# EAGLE library part TPS61236P (library CougsInSpace)
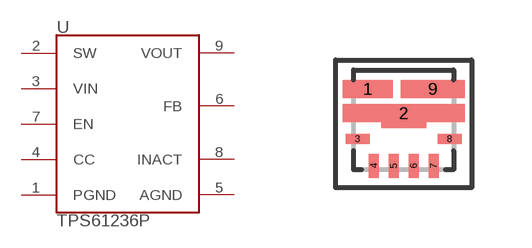
[diagram p27: symbol with the pads of QFN-TPS61236P; footprint QFN-TPS61236P]

Designator prefix U

## TPS61236P  [QFN-TPS61236P]
1  PGND  pwr
2  SW  pas
3  VIN  pwr
4  CC  in
5  AGND  pwr
6  FB  in
7  EN  in
8  INACT  out
9  VOUT  pwr

## Footprint QFN-TPS61236P (pad centres in mm)
smd 1.25 x 0.44: 1 -0.9,0.77
smd 3.05 x 0.45: 2 0,0.17
smd 0.6 x 0.25: 3 -1.15,-0.475; 8 1.15,-0.475
smd 0.25 x 0.6: 4 -0.75,-1.15; 5 -0.25,-1.15; 6 0.25,-1.15; 7 0.75,-1.15
smd 1.6 x 0.44: 9 0.725,0.77